# Altium schematic symbol library D_TVS_Quad_USB.SchLib: 1 symbol
Pins are listed as number, name and electrical type; pins without a type are passive.

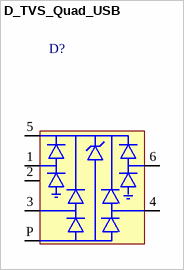
[diagram p0: symbol D_TVS_Quad_USB]

## D_TVS_Quad_USB
designator D?
pins: 1, 2, 3, 4, 5, 6, P